# Altium footprint library Protel 99SE BANKS PCB.PCBLIB: 278 footprints (part 16 of 18)
Each footprint in its own frame and in the unit in brackets; x right, y up, seen from the top. Pads: shape width x height; smd on the part's side, far side on the other; paste and mask are expansions set on the pad; w line width, h text height; cw(c..) or ccw(c..) is an arc to the next point about the centre after c.
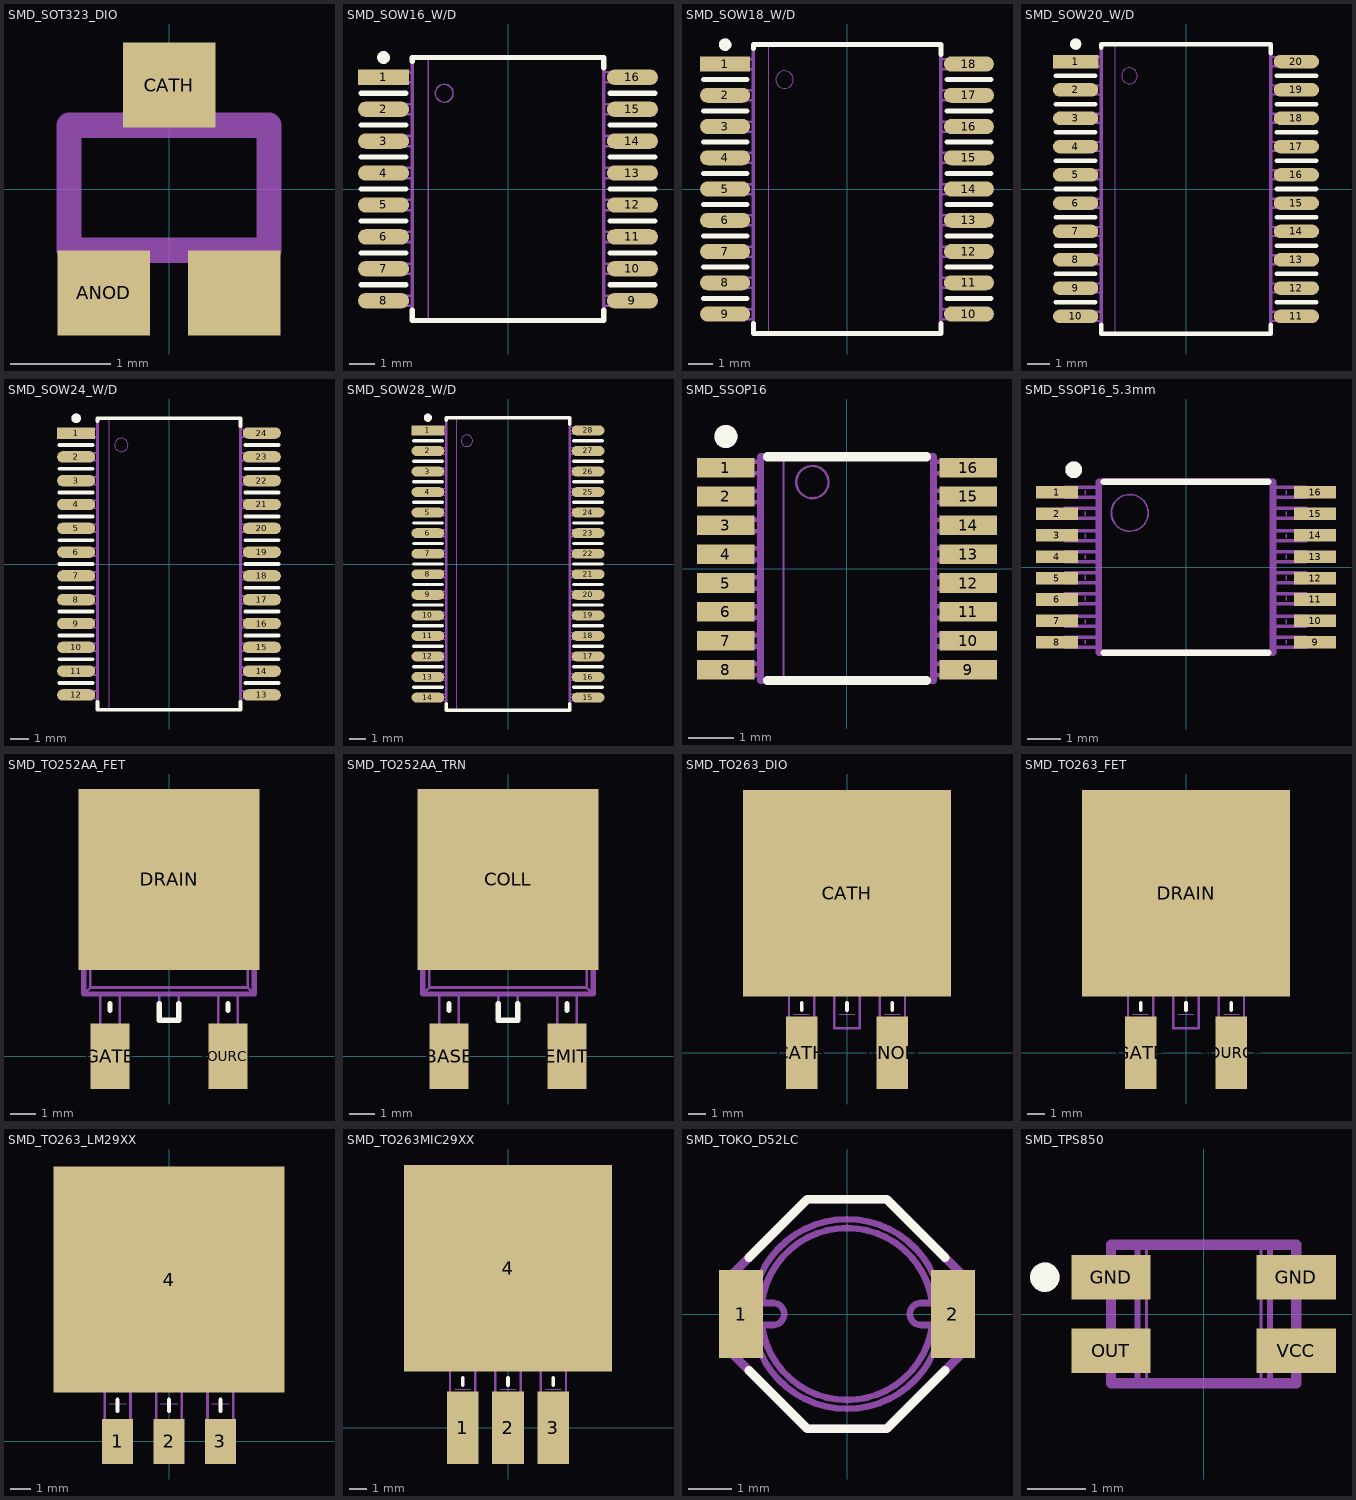
[diagram p15: the footprints below, top view; thin cyan lines are the x and y axes]

## SMD_SOT323_DIO [mm]
pads (3):
  rect 0.925x0.85 smd: ANOD(-0.65,-1.038) CATH(0,1.038) ""(0.65,-1.038)
Mechanical3:
  lines w0.254: -1,-0.612 -1,0.638 1,0.638 1,-0.612 -1,-0.612

## SMD_SOW16_W/D [mil]
pads (16):
  rect 80x24 smd: 1(-195,175)
  oval 80x24 smd: 2(-195,125) 3(-195,75) 4(-195,25) 5(-195,-25) 6(-195,-75) 7(-195,-125) 8(-195,-175) 9(195,-175) 10(195,-125) 11(195,-75) 12(195,-25) 13(195,25) 14(195,75) 15(195,125) 16(195,175)
TopOverlay:
  circle w8: c-195,206 r6
  lines w8: -230,-150 -160,-150 ; -230,-100 -160,-100 ; -230,-50 -160,-50 ; -230,0 -160,0 ; -230,50 -160,50 ; -230,100 -160,100 ; -230,150 -160,150 ; -199,206 -191,206 ; -195,202 -195,210 ; -150,-190 -150,-206 150,-206 150,-190 ; -150,200 -150,206 150,206 150,190 ; 160,-150 230,-150 ; 160,-100 230,-100 ; 160,-50 230,-50 ; 160,0 230,0 ; 160,50 230,50 ; 160,100 230,100 ; 160,150 230,150
Mechanical3:
  circle w8: c-195,206 r6
  circle w2: c-100,150 r14
  lines w2: -175,-178 -175,-172 ; -175,-128 -175,-122 ; -175,-78 -175,-72 ; -175,-28 -175,-22 ; -175,22 -175,28 ; -175,72 -175,78 ; -175,122 -175,128 ; -175,172 -175,178 ; -125,-206 -125,206 ; 175,-178 175,-172 ; 175,-128 175,-122 ; 175,-78 175,-72 ; 175,-28 175,-22 ; 175,22 175,28 ; 175,72 175,78 ; 175,122 175,128 ; 175,172 175,178
  lines w4: -185,-183 -185,-167 ; -185,-133 -185,-117 ; -185,-83 -185,-67 ; -185,-33 -185,-17 ; -185,17 -185,33 ; -185,67 -185,83 ; -185,117 -185,133 ; -185,167 -185,183 ; -150,-183 -205,-183 -205,-167 -150,-167 ; -150,-133 -205,-133 -205,-117 -150,-117 ; -150,-83 -205,-83 -205,-67 -150,-67 ; -150,-33 -205,-33 -205,-17 -150,-17 ; -150,17 -205,17 -205,33 -150,33 ; -150,67 -205,67 -205,83 -150,83 ; -150,117 -205,117 -205,133 -150,133 ; -150,167 -205,167 -205,183 -150,183 ; 150,-183 205,-183 205,-167 150,-167 ; 150,-133 205,-133 205,-117 150,-117 ; 150,-83 205,-83 205,-67 150,-67 ; 150,-33 205,-33 205,-17 150,-17 ; 150,17 205,17 205,33 150,33 ; 150,67 205,67 205,83 150,83 ; 150,117 205,117 205,133 150,133 ; 150,167 205,167 205,183 150,183 ; 185,-183 185,-167 ; 185,-133 185,-117 ; 185,-83 185,-67 ; 185,-33 185,-17 ; 185,17 185,33 ; 185,67 185,83 ; 185,117 185,133 ; 185,167 185,183
  lines w6: -150,-206 150,-206 150,206 -150,206 -150,-206
  lines w8: -199,206 -191,206 ; -195,202 -195,210

## SMD_SOW18_W/D [mil]
pads (18):
  rect 80x24 smd: 1(-195,200)
  oval 80x24 smd: 2(-195,150) 3(-195,100) 4(-195,50) 5(-195,0) 6(-195,-50) 7(-195,-100) 8(-195,-150) 9(-195,-200) 10(195,-200) 11(195,-150) 12(195,-100) 13(195,-50) 14(195,0) 15(195,50) 16(195,100) 17(195,150) 18(195,200)
TopOverlay:
  circle w8: c-195,231 r6
  lines w8: -230,-175 -160,-175 ; -230,-125 -160,-125 ; -230,-75 -160,-75 ; -230,-25 -160,-25 ; -230,25 -160,25 ; -230,75 -160,75 ; -230,125 -160,125 ; -230,175 -160,175 ; -199,231 -191,231 ; -195,227 -195,235 ; -150,-215 -150,-231 150,-231 150,-215 ; -150,225 -150,231 150,231 150,215 ; 160,-175 230,-175 ; 160,-125 230,-125 ; 160,-75 230,-75 ; 160,-25 230,-25 ; 160,25 230,25 ; 160,75 230,75 ; 160,125 230,125 ; 160,175 230,175
Mechanical3:
  circle w8: c-195,231 r6
  circle w2: c-100,175 r14
  lines w2: -175,-203 -175,-197 ; -175,-153 -175,-147 ; -175,-103 -175,-97 ; -175,-53 -175,-47 ; -175,-3 -175,3 ; -175,47 -175,53 ; -175,97 -175,103 ; -175,147 -175,153 ; -175,197 -175,203 ; -125,-231 -125,231 ; 175,-203 175,-197 ; 175,-153 175,-147 ; 175,-103 175,-97 ; 175,-53 175,-47 ; 175,-3 175,3 ; 175,47 175,53 ; 175,97 175,103 ; 175,147 175,153 ; 175,197 175,203
  lines w4: -185,-208 -185,-192 ; -185,-158 -185,-142 ; -185,-108 -185,-92 ; -185,-58 -185,-42 ; -185,-8 -185,8 ; -185,42 -185,58 ; -185,92 -185,108 ; -185,142 -185,158 ; -185,192 -185,208 ; -150,-208 -205,-208 -205,-192 -150,-192 ; -150,-158 -205,-158 -205,-142 -150,-142 ; -150,-108 -205,-108 -205,-92 -150,-92 ; -150,-58 -205,-58 -205,-42 -150,-42 ; -150,-8 -205,-8 -205,8 -150,8 ; -150,42 -205,42 -205,58 -150,58 ; -150,92 -205,92 -205,108 -150,108 ; -150,142 -205,142 -205,158 -150,158 ; -150,192 -205,192 -205,208 -150,208 ; 150,-208 205,-208 205,-192 150,-192 ; 150,-158 205,-158 205,-142 150,-142 ; 150,-108 205,-108 205,-92 150,-92 ; 150,-58 205,-58 205,-42 150,-42 ; 150,-8 205,-8 205,8 150,8 ; 150,42 205,42 205,58 150,58 ; 150,92 205,92 205,108 150,108 ; 150,142 205,142 205,158 150,158 ; 150,192 205,192 205,208 150,208 ; 185,-208 185,-192 ; 185,-158 185,-142 ; 185,-108 185,-92 ; 185,-58 185,-42 ; 185,-8 185,8 ; 185,42 185,58 ; 185,92 185,108 ; 185,142 185,158 ; 185,192 185,208
  lines w6: -150,-231 150,-231 150,231 -150,231 -150,-231
  lines w8: -199,231 -191,231 ; -195,227 -195,235

## SMD_SOW20_W/D [mil]
pads (20):
  rect 80x24 smd: 1(-195,225)
  oval 80x24 smd: 2(-195,175) 3(-195,125) 4(-195,75) 5(-195,25) 6(-195,-25) 7(-195,-75) 8(-195,-125) 9(-195,-175) 10(-195,-225) 11(195,-225) 12(195,-175) 13(195,-125) 14(195,-75) 15(195,-25) 16(195,25) 17(195,75) 18(195,125) 19(195,175) 20(195,225)
TopOverlay:
  circle w8: c-195,256 r6
  lines w8: -230,-200 -160,-200 ; -230,-150 -160,-150 ; -230,-100 -160,-100 ; -230,-50 -160,-50 ; -230,0 -160,0 ; -230,50 -160,50 ; -230,100 -160,100 ; -230,150 -160,150 ; -230,200 -160,200 ; -199,256 -191,256 ; -195,252 -195,260 ; -150,-240 -150,-256 150,-256 150,-240 ; -150,250 -150,256 150,256 150,240 ; 160,-200 230,-200 ; 160,-150 230,-150 ; 160,-100 230,-100 ; 160,-50 230,-50 ; 160,0 230,0 ; 160,50 230,50 ; 160,100 230,100 ; 160,150 230,150 ; 160,200 230,200
Mechanical3:
  circle w2: c-100,200 r14
  circle w8: c-195,256 r6
  lines w2: -175,-228 -175,-222 ; -175,-178 -175,-172 ; -175,-128 -175,-122 ; -175,-78 -175,-72 ; -175,-28 -175,-22 ; -175,22 -175,28 ; -175,72 -175,78 ; -175,122 -175,128 ; -175,172 -175,178 ; -175,222 -175,228 ; -125,-256 -125,256 ; 175,-228 175,-222 ; 175,-178 175,-172 ; 175,-128 175,-122 ; 175,-78 175,-72 ; 175,-28 175,-22 ; 175,22 175,28 ; 175,72 175,78 ; 175,122 175,128 ; 175,172 175,178 ; 175,222 175,228
  lines w4: -185,-233 -185,-217 ; -185,-183 -185,-167 ; -185,-133 -185,-117 ; -185,-83 -185,-67 ; -185,-33 -185,-17 ; -185,17 -185,33 ; -185,67 -185,83 ; -185,117 -185,133 ; -185,167 -185,183 ; -185,217 -185,233 ; -150,-233 -205,-233 -205,-217 -150,-217 ; -150,-183 -205,-183 -205,-167 -150,-167 ; -150,-133 -205,-133 -205,-117 -150,-117 ; -150,-83 -205,-83 -205,-67 -150,-67 ; -150,-33 -205,-33 -205,-17 -150,-17 ; -150,17 -205,17 -205,33 -150,33 ; -150,67 -205,67 -205,83 -150,83 ; -150,117 -205,117 -205,133 -150,133 ; -150,167 -205,167 -205,183 -150,183 ; -150,217 -205,217 -205,233 -150,233 ; 150,-233 205,-233 205,-217 150,-217 ; 150,-183 205,-183 205,-167 150,-167 ; 150,-133 205,-133 205,-117 150,-117 ; 150,-83 205,-83 205,-67 150,-67 ; 150,-33 205,-33 205,-17 150,-17 ; 150,17 205,17 205,33 150,33 ; 150,67 205,67 205,83 150,83 ; 150,117 205,117 205,133 150,133 ; 150,167 205,167 205,183 150,183 ; 150,217 205,217 205,233 150,233 ; 185,-233 185,-217 ; 185,-183 185,-167 ; 185,-133 185,-117 ; 185,-83 185,-67 ; 185,-33 185,-17 ; 185,17 185,33 ; 185,67 185,83 ; 185,117 185,133 ; 185,167 185,183 ; 185,217 185,233
  lines w6: -150,-256 -150,256 150,256 150,-256 -150,-256
  lines w8: -199,256 -191,256 ; -195,252 -195,260

## SMD_SOW24_W/D [mil]
pads (24):
  rect 80x24 smd: 1(-195,275)
  oval 80x24 smd: 2(-195,225) 3(-195,175) 4(-195,125) 5(-195,75) 6(-195,25) 7(-195,-25) 8(-195,-75) 9(-195,-125) 10(-195,-175) 11(-195,-225) 12(-195,-275) 13(195,-275) 14(195,-225) 15(195,-175) 16(195,-125) 17(195,-75) 18(195,-25) 19(195,25) 20(195,75) 21(195,125) 22(195,175) 23(195,225) 24(195,275)
TopOverlay:
  circle w8: c-195,306 r6
  lines w8: -230,-250 -160,-250 ; -230,-200 -160,-200 ; -230,-150 -160,-150 ; -230,-100 -160,-100 ; -230,-50 -160,-50 ; -230,0 -160,0 ; -230,50 -160,50 ; -230,100 -160,100 ; -230,150 -160,150 ; -230,200 -160,200 ; -230,250 -160,250 ; -199,306 -191,306 ; -195,302 -195,310 ; -150,-290 -150,-306 150,-306 150,-290 ; -150,300 -150,306 150,306 150,290 ; 160,-250 230,-250 ; 160,-200 230,-200 ; 160,-150 230,-150 ; 160,-100 230,-100 ; 160,-50 230,-50 ; 160,0 230,0 ; 160,50 230,50 ; 160,100 230,100 ; 160,150 230,150 ; 160,200 230,200 ; 160,250 230,250
Mechanical3:
  circle w8: c-195,306 r6
  circle w2: c-100,250 r14
  lines w2: -175,-278 -175,-272 ; -175,-228 -175,-222 ; -175,-178 -175,-172 ; -175,-128 -175,-122 ; -175,-78 -175,-72 ; -175,-28 -175,-22 ; -175,22 -175,28 ; -175,72 -175,78 ; -175,122 -175,128 ; -175,172 -175,178 ; -175,222 -175,228 ; -175,272 -175,278 ; -125,-306 -125,306 ; 175,-278 175,-272 ; 175,-228 175,-222 ; 175,-178 175,-172 ; 175,-128 175,-122 ; 175,-78 175,-72 ; 175,-28 175,-22 ; 175,22 175,28 ; 175,72 175,78 ; 175,122 175,128 ; 175,172 175,178 ; 175,222 175,228 ; 175,272 175,278
  lines w4: -185,-283 -185,-267 ; -185,-233 -185,-217 ; -185,-183 -185,-167 ; -185,-133 -185,-117 ; -185,-83 -185,-67 ; -185,-33 -185,-17 ; -185,17 -185,33 ; -185,67 -185,83 ; -185,117 -185,133 ; -185,167 -185,183 ; -185,217 -185,233 ; -185,267 -185,283 ; -150,-283 -205,-283 -205,-267 -150,-267 ; -150,-233 -205,-233 -205,-217 -150,-217 ; -150,-183 -205,-183 -205,-167 -150,-167 ; -150,-133 -205,-133 -205,-117 -150,-117 ; -150,-83 -205,-83 -205,-67 -150,-67 ; -150,-33 -205,-33 -205,-17 -150,-17 ; -150,17 -205,17 -205,33 -150,33 ; -150,67 -205,67 -205,83 -150,83 ; -150,117 -205,117 -205,133 -150,133 ; -150,167 -205,167 -205,183 -150,183 ; -150,217 -205,217 -205,233 -150,233 ; -150,267 -205,267 -205,283 -150,283 ; 150,-283 205,-283 205,-267 150,-267 ; 150,-233 205,-233 205,-217 150,-217 ; 150,-183 205,-183 205,-167 150,-167 ; 150,-133 205,-133 205,-117 150,-117 ; 150,-83 205,-83 205,-67 150,-67 ; 150,-33 205,-33 205,-17 150,-17 ; 150,17 205,17 205,33 150,33 ; 150,67 205,67 205,83 150,83 ; 150,117 205,117 205,133 150,133 ; 150,167 205,167 205,183 150,183 ; 150,217 205,217 205,233 150,233 ; 150,267 205,267 205,283 150,283 ; 185,-283 185,-267 ; 185,-233 185,-217 ; 185,-183 185,-167 ; 185,-133 185,-117 ; 185,-83 185,-67 ; 185,-33 185,-17 ; 185,17 185,33 ; 185,67 185,83 ; 185,117 185,133 ; 185,167 185,183 ; 185,217 185,233 ; 185,267 185,283
  lines w6: -150,-306 -150,306 150,306 150,-306 -150,-306
  lines w8: -199,306 -191,306 ; -195,302 -195,310

## SMD_SOW28_W/D [mil]
pads (28):
  rect 80x24 smd: 1(-195,325)
  oval 80x24 smd: 2(-195,275) 3(-195,225) 4(-195,175) 5(-195,125) 6(-195,75) 7(-195,25) 8(-195,-25) 9(-195,-75) 10(-195,-125) 11(-195,-175) 12(-195,-225) 13(-195,-275) 14(-195,-325) 15(195,-325) 16(195,-275) 17(195,-225) 18(195,-175) 19(195,-125) 20(195,-75) 21(195,-25) 22(195,25) 23(195,75) 24(195,125) 25(195,175) 26(195,225) 27(195,275) 28(195,325)
TopOverlay:
  circle w8: c-195,356 r6
  lines w8: -230,-300 -160,-300 ; -230,-250 -160,-250 ; -230,-200 -160,-200 ; -230,-150 -160,-150 ; -230,-100 -160,-100 ; -230,-50 -160,-50 ; -230,0 -160,0 ; -230,50 -160,50 ; -230,100 -160,100 ; -230,150 -160,150 ; -230,200 -160,200 ; -230,250 -160,250 ; -230,300 -160,300 ; -199,356 -191,356 ; -195,352 -195,360 ; -150,-340 -150,-356 150,-356 150,-340 ; -150,350 -150,356 150,356 150,340 ; 160,-300 230,-300 ; 160,-250 230,-250 ; 160,-200 230,-200 ; 160,-150 230,-150 ; 160,-100 230,-100 ; 160,-50 230,-50 ; 160,0 230,0 ; 160,50 230,50 ; 160,100 230,100 ; 160,150 230,150 ; 160,200 230,200 ; 160,250 230,250 ; 160,300 230,300
Mechanical3:
  circle w2: c-100,300 r14
  circle w8: c-195,356 r6
  lines w2: -175,-328 -175,-322 ; -175,-278 -175,-272 ; -175,-228 -175,-222 ; -175,-178 -175,-172 ; -175,-128 -175,-122 ; -175,-78 -175,-72 ; -175,-28 -175,-22 ; -175,22 -175,28 ; -175,72 -175,78 ; -175,122 -175,128 ; -175,172 -175,178 ; -175,222 -175,228 ; -175,272 -175,278 ; -175,322 -175,328 ; -125,-356 -125,356 ; 175,-328 175,-322 ; 175,-278 175,-272 ; 175,-228 175,-222 ; 175,-178 175,-172 ; 175,-128 175,-122 ; 175,-78 175,-72 ; 175,-28 175,-22 ; 175,22 175,28 ; 175,72 175,78 ; 175,122 175,128 ; 175,172 175,178 ; 175,222 175,228 ; 175,272 175,278 ; 175,322 175,328
  lines w4: -185,-333 -185,-317 ; -185,-283 -185,-267 ; -185,-233 -185,-217 ; -185,-183 -185,-167 ; -185,-133 -185,-117 ; -185,-83 -185,-67 ; -185,-33 -185,-17 ; -185,17 -185,33 ; -185,67 -185,83 ; -185,117 -185,133 ; -185,167 -185,183 ; -185,217 -185,233 ; -185,267 -185,283 ; -185,317 -185,333 ; -150,-333 -205,-333 -205,-317 -150,-317 ; -150,-283 -205,-283 -205,-267 -150,-267 ; -150,-233 -205,-233 -205,-217 -150,-217 ; -150,-183 -205,-183 -205,-167 -150,-167 ; -150,-133 -205,-133 -205,-117 -150,-117 ; -150,-83 -205,-83 -205,-67 -150,-67 ; -150,-33 -205,-33 -205,-17 -150,-17 ; -150,17 -205,17 -205,33 -150,33 ; -150,67 -205,67 -205,83 -150,83 ; -150,117 -205,117 -205,133 -150,133 ; -150,167 -205,167 -205,183 -150,183 ; -150,217 -205,217 -205,233 -150,233 ; -150,267 -205,267 -205,283 -150,283 ; -150,317 -205,317 -205,333 -150,333 ; 150,-333 205,-333 205,-317 150,-317 ; 150,-283 205,-283 205,-267 150,-267 ; 150,-233 205,-233 205,-217 150,-217 ; 150,-183 205,-183 205,-167 150,-167 ; 150,-133 205,-133 205,-117 150,-117 ; 150,-83 205,-83 205,-67 150,-67 ; 150,-33 205,-33 205,-17 150,-17 ; 150,17 205,17 205,33 150,33 ; 150,67 205,67 205,83 150,83 ; 150,117 205,117 205,133 150,133 ; 150,167 205,167 205,183 150,183 ; 150,217 205,217 205,233 150,233 ; 150,267 205,267 205,283 150,283 ; 150,317 205,317 205,333 150,333 ; 185,-333 185,-317 ; 185,-283 185,-267 ; 185,-233 185,-217 ; 185,-183 185,-167 ; 185,-133 185,-117 ; 185,-83 185,-67 ; 185,-33 185,-17 ; 185,17 185,33 ; 185,67 185,83 ; 185,117 185,133 ; 185,167 185,183 ; 185,217 185,233 ; 185,267 185,283 ; 185,317 185,333
  lines w6: -150,-356 150,-356 150,356 -150,356 -150,-356
  lines w8: -199,356 -191,356 ; -195,352 -195,360

## SMD_SSOP16 [mil]
pads (16):
  rect 50x17 smd: 1(-105,87.5) 2(-105,62.5) 3(-105,37.5) 4(-105,12.5) 5(-105,-12.5) 6(-105,-37.5) 7(-105,-62.5) 8(-105,-87.5) 9(105,-87.5) 10(105,-62.5) 11(105,-37.5) 12(105,-12.5) 13(105,12.5) 14(105,37.5) 15(105,62.5) 16(105,87.5)
TopOverlay:
  circle w8: c-105,114.5 r6
  lines w8: -109,114.5 -101,114.5 ; -105,110.5 -105,118.5 ; -69,-97 69,-97 ; -69,97 69,97
Mechanical3:
  circle w2: c-30,75 r14
  circle w8: c-105,114.5 r6
  lines w2: -103,-88.5 -103,-86.5 ; -103,-63.5 -103,-61.5 ; -103,-38.5 -103,-36.5 ; -103,-13.5 -103,-11.5 ; -103,11.5 -103,13.5 ; -103,36.5 -103,38.5 ; -103,61.5 -103,63.5 ; -103,86.5 -103,88.5 ; -91,-88.5 -91,-86.5 ; -91,-63.5 -91,-61.5 ; -91,-38.5 -91,-36.5 ; -91,-13.5 -91,-11.5 ; -91,11.5 -91,13.5 ; -91,36.5 -91,38.5 ; -91,61.5 -91,63.5 ; -91,86.5 -91,88.5 ; -55,-97 -55,97 ; 91,-88.5 91,-86.5 ; 91,-63.5 91,-61.5 ; 91,-38.5 91,-36.5 ; 91,-13.5 91,-11.5 ; 91,11.5 91,13.5 ; 91,36.5 91,38.5 ; 91,61.5 91,63.5 ; 91,86.5 91,88.5 ; 103,-88.5 103,-86.5 ; 103,-63.5 103,-61.5 ; 103,-38.5 103,-36.5 ; 103,-13.5 103,-11.5 ; 103,11.5 103,13.5 ; 103,36.5 103,38.5 ; 103,61.5 103,63.5 ; 103,86.5 103,88.5
  lines w4: -75,-92.5 -118,-92.5 -118,-82.5 -75,-82.5 ; -75,-67.5 -118,-67.5 -118,-57.5 -75,-57.5 ; -75,-42.5 -118,-42.5 -118,-32.5 -75,-32.5 ; -75,-17.5 -118,-17.5 -118,-7.5 -75,-7.5 ; -75,7.5 -118,7.5 -118,17.5 -75,17.5 ; -75,32.5 -118,32.5 -118,42.5 -75,42.5 ; -75,57.5 -118,57.5 -118,67.5 -75,67.5 ; -75,82.5 -118,82.5 -118,92.5 -75,92.5 ; 75,-92.5 118,-92.5 118,-82.5 75,-82.5 ; 75,-67.5 118,-67.5 118,-57.5 75,-57.5 ; 75,-42.5 118,-42.5 118,-32.5 75,-32.5 ; 75,-17.5 118,-17.5 118,-7.5 75,-7.5 ; 75,7.5 118,7.5 118,17.5 75,17.5 ; 75,32.5 118,32.5 118,42.5 75,42.5 ; 75,57.5 118,57.5 118,67.5 75,67.5 ; 75,82.5 118,82.5 118,92.5 75,92.5
  lines w6: -75,-97 -75,97 75,97 75,-97 -75,-97
  lines w8: -109,114.5 -101,114.5 ; -105,110.5 -105,118.5

## SMD_SSOP16_5.3mm [mil]
pads (16):
  rect 50x15 smd: 1(-154.16,89.57) 2(-154.16,63.98) 3(-154.16,38.39) 4(-154.16,12.8) 5(-154.16,-12.8) 6(-154.16,-38.39) 7(-154.16,-63.98) 8(-154.16,-89.57) 9(154.16,-89.57) 10(154.16,-63.98) 11(154.16,-38.39) 12(154.16,-12.79) 13(154.16,12.79) 14(154.16,38.39) 15(154.16,63.98) 16(154.16,89.57)
TopOverlay:
  circle w8: c-134.16,116.57 r6
  lines w8: -138.16,116.57 -130.16,116.57 ; -134.16,112.57 -134.16,120.57 ; -98.16,-101.93 97.84,-101.93 ; -98.16,102.07 97.84,102.07
Mechanical3:
  circle w8: c-134.16,116.57 r6
  circle w2: c-67.16,65.07 r22
  lines w2: -131.16,-91.43 -131.16,-87.43 ; -131.16,-66.43 -131.16,-62.43 ; -131.16,-39.43 -131.16,-35.43 ; -131.16,-14.43 -131.16,-10.43 ; -131.16,10.57 -131.16,14.57 ; -131.16,35.57 -131.16,39.57 ; -131.16,62.57 -131.16,66.57 ; -131.16,87.57 -131.16,91.57 ; -120.16,-91.43 -120.16,-87.43 ; -120.16,-66.43 -120.16,-62.43 ; -120.16,-39.43 -120.16,-35.43 ; -120.16,-14.43 -120.16,-10.43 ; -120.16,10.57 -120.16,14.57 ; -120.16,35.57 -120.16,39.57 ; -120.16,62.57 -120.16,66.57 ; -120.16,87.57 -120.16,91.57 ; 119.84,-91.43 119.84,-87.43 ; 119.84,-66.43 119.84,-62.43 ; 119.84,-39.43 119.84,-35.43 ; 119.84,-14.43 119.84,-10.43 ; 119.84,10.57 119.84,14.57 ; 119.84,35.57 119.84,39.57 ; 119.84,62.57 119.84,66.57 ; 119.84,87.57 119.84,91.57 ; 130.84,-91.43 130.84,-87.43 ; 130.84,-66.43 130.84,-62.43 ; 130.84,-39.43 130.84,-35.43 ; 130.84,-14.43 130.84,-10.43 ; 130.84,10.57 130.84,14.57 ; 130.84,35.57 130.84,39.57 ; 130.84,62.57 130.84,66.57 ; 130.84,87.57 130.84,91.57
  lines w4: -104.16,-95.43 -144.16,-95.43 -144.16,-83.43 -104.16,-83.43 ; -104.16,-70.43 -144.16,-70.43 -144.16,-58.43 -104.16,-58.43 ; -104.16,-43.43 -144.16,-43.43 -144.16,-31.43 -104.16,-31.43 ; -104.16,-18.43 -144.16,-18.43 -144.16,-6.43 -104.16,-6.43 ; -104.16,6.57 -144.16,6.57 -144.16,18.57 -104.16,18.57 ; -104.16,31.57 -144.16,31.57 -144.16,43.57 -104.16,43.57 ; -104.16,58.57 -144.16,58.57 -144.16,70.57 -104.16,70.57 ; -104.16,83.57 -144.16,83.57 -144.16,95.57 -104.16,95.57 ; 103.84,-95.43 143.84,-95.43 143.84,-83.43 103.84,-83.43 ; 103.84,-70.43 143.84,-70.43 143.84,-58.43 103.84,-58.43 ; 103.84,-43.43 143.84,-43.43 143.84,-31.43 103.84,-31.43 ; 103.84,-18.43 143.84,-18.43 143.84,-6.43 103.84,-6.43 ; 103.84,6.57 143.84,6.57 143.84,18.57 103.84,18.57 ; 103.84,31.57 143.84,31.57 143.84,43.57 103.84,43.57 ; 103.84,58.57 143.84,58.57 143.84,70.57 103.84,70.57 ; 103.84,83.57 143.84,83.57 143.84,95.57 103.84,95.57
  lines w8: -138.16,116.57 -130.16,116.57 ; -134.16,112.57 -134.16,120.57 ; -104.16,-101.93 -104.16,102.07 103.84,102.07 103.84,-101.93 61.34,-101.93 -61.66,-101.93 -104.16,-101.93

## SMD_TO252AA_FET [mil]
pads (3):
  rect 276x276 smd: DRAIN(0,270)
  rect 60x100 smd: GATE(-90,0) SOURCE(90,0)
TopOverlay:
  lines w8: -90,70 -90,80 ; -15,80 -15,55 15,55 15,80 ; 90,70 90,80
Mechanical3:
  lines w4: -130,95 -120,105 ; -130,310 -120,305 ; -105,95 -105,40 -110,35 -110,15 -105,10 -105,-10 -75,-10 -75,10 -70,15 -70,35 -75,40 -75,95 ; -105,335 -100,325 ; -15,95 -15,55 15,55 15,95 ; 75,95 75,40 70,35 70,15 75,10 75,-10 105,-10 105,10 110,15 110,35 105,40 105,95 ; 105,335 100,325 ; 130,95 120,105 ; 130,310 120,305 ; -120,105 120,105 ; -120,105 -120,305 ; -120,305 -100,325 ; -100,325 100,325 ; 100,325 120,305 ; 120,105 120,305
  lines w8: -105,335 -105,360 -75,380 75,380 105,360 105,335 ; -105,335 105,335 ; -105,335 -130,310 -130,95 130,95 130,310 105,335

## SMD_TO252AA_TRN [mil]
pads (3):
  rect 60x100 smd: BASE(-90,0) EMIT(90,0)
  rect 276x276 smd: COLL(0,270)
TopOverlay:
  lines w8: -90,70 -90,80 ; -15,80 -15,55 15,55 15,80 ; 90,70 90,80
Mechanical3:
  lines w4: -130,95 -120,105 ; -130,310 -120,305 ; -105,95 -105,40 -110,35 -110,15 -105,10 -105,-10 -75,-10 -75,10 -70,15 -70,35 -75,40 -75,95 ; -105,335 -100,325 ; -15,95 -15,55 15,55 15,95 ; 75,95 75,40 70,35 70,15 75,10 75,-10 105,-10 105,10 110,15 110,35 105,40 105,95 ; 105,335 100,325 ; 130,95 120,105 ; 130,310 120,305 ; -120,105 -120,305 ; -120,105 120,105 ; -120,305 -100,325 ; -100,325 100,325 ; 100,325 120,305 ; 120,105 120,305
  lines w8: -105,335 -130,310 -130,95 130,95 130,310 105,335 ; -105,335 105,335 ; -105,335 -105,360 -75,380 75,380 105,360 105,335

## SMD_TO263_DIO [mil]
pads (3):
  rect 70x160 smd: ANOD(100,0) CATH(-100,0)
  rect 460x456 smd: CATH(0,352)
TopOverlay:
  lines w8: -100,94 -100,110 ; 0,94 0,110 ; 100,94 100,110
Mechanical3:
  lines w2: -117,30 -83,30 ; -117,85 -83,85 ; -17,85 17,85 ; 83,30 117,30 ; 83,85 117,85
  lines w5: -128,145 -128,-25 -117,-25 -117,-60 -83,-60 -83,-25 -72,-25 -72,145 ; -28,145 -28,54 28,54 ; 28,53.74 28,145 ; 72,145 72,-25 83,-25 83,-60 117,-60 117,-25 128,-25 128,145
  lines w6: -205,505 -185,480 ; -185,145 -185,480 ; 185,145 185,480 ; 205,505 185,480 ; -185,480 185,480
  lines w10: -205,505 205,505 ; -205,145 205,145 205,525 140,555 -140,555 -205,525 -205,145

## SMD_TO263_FET [mil]
pads (3):
  rect 460x456 smd: DRAIN(0,352)
  rect 70x160 smd: GATE(-100,0) SOURCE(100,0)
TopOverlay:
  lines w8: -100,94 -100,110 ; 0,94 0,110 ; 100,94 100,110
Mechanical3:
  lines w2: -117,30 -83,30 ; -117,85 -83,85 ; -17,85 17,85 ; 83,30 117,30 ; 83,85 117,85
  lines w5: -128,145 -128,-25 -117,-25 -117,-60 -83,-60 -83,-25 -72,-25 -72,145 ; -28,145 -28,54 28,54 ; 28,53.74 28,145 ; 72,145 72,-25 83,-25 83,-60 117,-60 117,-25 128,-25 128,145
  lines w6: -205,505 -185,480 ; -185,145 -185,480 ; 185,145 185,480 ; 205,505 185,480 ; -185,480 185,480
  lines w10: -205,505 205,505 ; -205,145 205,145 205,525 140,555 -140,555 -205,525 -205,145

## SMD_TO263_LM29XX [mil]
pads (4):
  rect 60x88 smd: 1(-100,0) 2(0,0) 3(100,0)
  rect 450x440 smd: 4(0,315)
TopOverlay:
  lines w8: -100,59 -100,81 ; 0,59 0,81 ; 100,59 100,81
Mechanical3:
  lines w2: -117,33 -83,33 ; -117,73 -83,73 ; -17,33 17,33 ; -17,73 17,73 ; 83,33 117,33 ; 83,73 117,73
  lines w5: -125,115 -125,33 -117,25 -117,-32 -83,-32 -83,25 -75,33 -75,115 ; -25,115 -25,33 -17,25 -17,-32 17,-32 17,25 25,33 25,115 ; 75,115 75,33 83,25 83,-32 117,-32 117,25 125,33 125,115
  lines w6: -200,445 -182,429 ; -182,115 -182,429 ; 182,115 182,429 ; 200,445 182,429 ; -182,429 182,429
  lines w10: -200,445 200,445 ; -200,115 200,115 200,480 125,510 -125,510 -200,480 -200,115

## SMD_TO263MIC29XX [mil]
pads (4):
  rect 70x160 smd: 1(-100,0) 2(0,0) 3(100,0)
  rect 460x456 smd: 4(0,352)
TopOverlay:
  lines w8: -100,94 -100,110 ; 0,94 0,110 ; 100,94 100,110
Mechanical3:
  lines w2: -117,30 -83,30 ; -117,85 -83,85 ; -17,30 17,30 ; -17,85 17,85 ; 83,30 117,30 ; 83,85 117,85
  lines w5: -128,145 -128,-25 -117,-25 -117,-60 -83,-60 -83,-25 -72,-25 -72,145 ; -28,145 -28,-25 -17,-25 -17,-60 17,-60 17,-25 28,-25 28,145 ; 72,145 72,-25 83,-25 83,-60 117,-60 117,-25 128,-25 128,145
  lines w6: -205,505 -185,480 ; -185,145 -185,480 ; 185,145 185,480 ; 205,505 185,480 ; -185,480 185,480
  lines w10: -205,505 205,505 ; -205,145 -205,525 -140,555 140,555 205,525 205,145 -205,145

## SMD_TOKO_D52LC [mil]
pads (2):
  rect 40x80 smd: 1(-96,0) 2(96,0)
TopOverlay:
  lines w8: -89,-51 -36,-104 36,-104 89,-51 ; -89,51 -36,104 36,104 89,51
Mechanical3:
  lines w6: -104,-34 -79,-34 ccw(c0,0) 78.99,-34.02 104,-34 ; -104,34 -79,34 cw(c0,0) 78.99,34.02 104,34 ; -77.37,-9.91 ccw(c0,0) 77.37,-9.91 ; -77.37,9.91 cw(c0,0) 77.37,9.91 ; -77,-10 -67,-10 ccw(c-67,0) -67,10 -77,10 ; 77,-10 67,-10 cw(c67,0) 67,10 77,10 ; -104,-30 -104,30 -84,30 -84,-30 -104,-30 ; 84,-30 84,30 104,30 104,-30 84,-30
  lines w8: -104,-34 -104,-36 -36,-104 36,-104 104,-36 104,-34 ; -104,34 -104,36 -36,104 36,104 104,36 104,34

## SMD_TPS850 [mil]
pads (4):
  rect 54x30 smd: GND(-63,25) GND(63,25) OUT(-63,-25) VCC(63,-25)
TopOverlay:
  circle w8: c-108,25 r6
  lines w8: -112,25 -104,25 ; -108,21 -108,29
Mechanical3:
  circle w8: c-108,25 r6
  lines w2: -39,-47 -39,47 ; 39,-47 39,47
  lines w4: -45,-47 -45,47 ; 45,-47 45,47
  lines w7: -63,-33 -63,-47 63,-47 63,-33 ; -63,-32.5 ccw(c-63,-25) -63,-17.5 -63,17.5 ccw(c-63,25) -63,32.5 ; -63,33 -63,47 63,47 63,33 ; 63,-32.5 cw(c63,-25) 63,-17.5 63,17.5 cw(c63,25) 63,32.5
  lines w8: -112,25 -104,25 ; -108,21 -108,29